# Altium schematic symbol library kmilo17pet-LT_OpAmp_LT1000.SchLib: 2280 symbols (part 49 of 79)
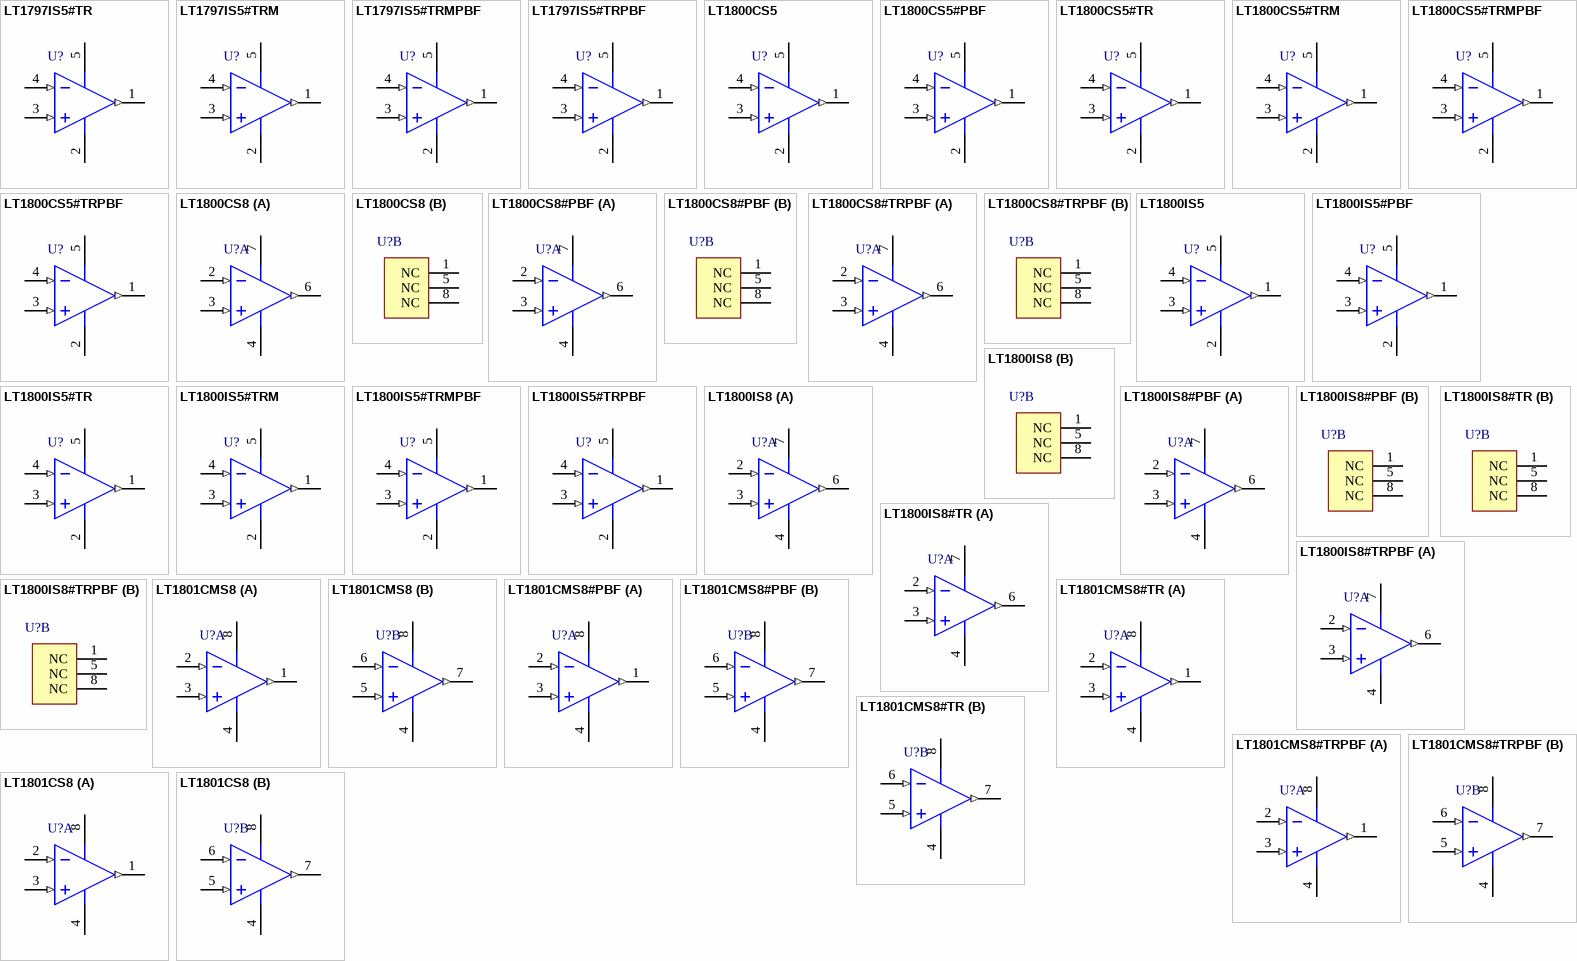
[diagram p153: symbols LT1797IS5#TR to LT1801CS8]

## LT1800CS5#TR
designator U?
Single Channel, High Speed / Power, Precision Operational Amplifier, RRIO, 80 MHz Typical GBW, 25 V/us Typical SR, 2.3 to 12.6 V, 5-Pin SOT23 (S5-5), Commercial, Reel; Linear Technology Part Number: LT1800; Manufacturer: Linear Technology; PartNumber: LT1800CS5#TR; Channels (#): 1; GBW (MHz) Typical: 80; Is (mA) Typical: 1.6; SR (V/us) Typical: 25; Vos (mV) Guaranteed: 0.35; Vos (mV) Typical: 0.075; Vs Max (V): 12.6; Vs Min (V): 2.3; DatasheetVersion: Rev. A; PackageReference: LT-S5-5-TSOT-23; PackageDescription: 5-Lead Plastic TSOT-23, Body 1.63 x 2.90 mm, Pitch 0.95 mm; Supplier 1: Digi-Key; Supplier Part Number 1: LT1800CS5TR-ND; Packing: Reel; Type: VFB; Mounting Technology: Surface Mount; Code_JEDEC: MO-193; ComponentLink1Description: Manufacturer URL; ComponentLink1URL: http://www.linear.com/; ComponentLink2Description: Datasheet; ComponentLink2URL: http://cds.linear.com/docs/en/datasheet/1800fa.pdf; ComponentLink3Description: Package Specification; ComponentLink3URL: http://cds.linear.com/docs/en/packaging/SOT_5_05-08-1635.pdf
footprint LT-S5-5-TSOT-23_N (SOT23, 5-Leads, Body 2.90x1.63mm, Pitch 0.95mm, IPC Medium Density)
footprint LT-S5-5-TSOT-23_L (SOT23, 5-Leads, Body 2.90x1.63mm, Pitch 0.95mm, IPC High Density)
footprint LT-S5-5-TSOT-23_M (SOT23, 5-Leads, Body 2.90x1.63mm, Pitch 0.95mm, IPC Low Density)
pins: 1 VOUT (out), 2 VS- (power), 3 +IN (in), 4 -IN (in), 5 VS+ (power)

## LT1800CS5#TRM
designator U?
Single Channel, High Speed / Power, Precision Operational Amplifier, RRIO, 80 MHz Typical GBW, 25 V/us Typical SR, 2.3 to 12.6 V, 5-Pin SOT23 (S5-5), Commercial, Mini Reel; Linear Technology Part Number: LT1800; Manufacturer: Linear Technology; PartNumber: LT1800CS5#TRM; Channels (#): 1; GBW (MHz) Typical: 80; Is (mA) Typical: 1.6; SR (V/us) Typical: 25; Vos (mV) Guaranteed: 0.35; Vos (mV) Typical: 0.075; Vs Max (V): 12.6; Vs Min (V): 2.3; DatasheetVersion: Rev. A; PackageReference: LT-S5-5-TSOT-23; PackageDescription: 5-Lead Plastic TSOT-23, Body 1.63 x 2.90 mm, Pitch 0.95 mm; Supplier 1: Digi-Key; Supplier Part Number 1: LT1800CS5#TRMTR-ND; Supplier 2: Digi-Key; Supplier Part Number 2: LT1800CS5#TRMCT-ND; Packing: Mini Reel; Type: VFB; Mounting Technology: Surface Mount; Code_JEDEC: MO-193; ComponentLink1Description: Manufacturer URL; ComponentLink1URL: http://www.linear.com/; ComponentLink2Description: Datasheet; ComponentLink2URL: http://cds.linear.com/docs/en/datasheet/1800fa.pdf; ComponentLink3Description: Package Specification; ComponentLink3URL: http://cds.linear.com/docs/en/packaging/SOT_5_05-08-1635.pdf
footprint LT-S5-5-TSOT-23_N (SOT23, 5-Leads, Body 2.90x1.63mm, Pitch 0.95mm, IPC Medium Density)
footprint LT-S5-5-TSOT-23_L (SOT23, 5-Leads, Body 2.90x1.63mm, Pitch 0.95mm, IPC High Density)
footprint LT-S5-5-TSOT-23_M (SOT23, 5-Leads, Body 2.90x1.63mm, Pitch 0.95mm, IPC Low Density)
pins: 1 VOUT (out), 2 VS- (power), 3 +IN (in), 4 -IN (in), 5 VS+ (power)

## LT1800CS5#TRMPBF
designator U?
Single Channel, High Speed / Power, Precision Operational Amplifier, RRIO, 80 MHz Typical GBW, 25 V/us Typical SR, 2.3 to 12.6 V, 5-Pin SOT23 (S5-5), Commercial, Pb-Free, Mini Reel; Linear Technology Part Number: LT1800; Manufacturer: Linear Technology; PartNumber: LT1800CS5#TRMPBF; Channels (#): 1; GBW (MHz) Typical: 80; Is (mA) Typical: 1.6; SR (V/us) Typical: 25; Vos (mV) Guaranteed: 0.35; Vos (mV) Typical: 0.075; Vs Max (V): 12.6; Vs Min (V): 2.3; DatasheetVersion: Rev. A; PackageReference: LT-S5-5-TSOT-23; PackageDescription: 5-Lead Plastic TSOT-23, Body 1.63 x 2.90 mm, Pitch 0.95 mm; Supplier 1: Digi-Key; Supplier Part Number 1: LT1800CS5#TRMPBFTR-ND; Supplier 2: Digi-Key; Supplier Part Number 2: LT1800CS5#TRMPBFCT-ND; Supplier 3: Digi-Key; Supplier Part Number 3: LT1800CS5#TRMPBFDKR-ND; Supplier 4: Farnell; Supplier Part Number 4: 1663796RL; Supplier 5: Farnell; Supplier Part Number 5: 1663796; Supplier 6: Newark; Supplier Part Number 6: 57M6724; Packing: Mini Reel; RoHS: Pb-Free; Type: VFB; Mounting Technology: Surface Mount; Code_JEDEC: MO-193; ComponentLink1Description: Manufacturer URL; ComponentLink1URL: http://www.linear.com/; ComponentLink2Description: Datasheet; ComponentLink2URL: http://cds.linear.com/docs/en/datasheet/1800fa.pdf; ComponentLink3Description: Package Specification; ComponentLink3URL: http://cds.linear.com/docs/en/packaging/SOT_5_05-08-1635.pdf
footprint LT-S5-5-TSOT-23_N (SOT23, 5-Leads, Body 2.90x1.63mm, Pitch 0.95mm, IPC Medium Density)
footprint LT-S5-5-TSOT-23_L (SOT23, 5-Leads, Body 2.90x1.63mm, Pitch 0.95mm, IPC High Density)
footprint LT-S5-5-TSOT-23_M (SOT23, 5-Leads, Body 2.90x1.63mm, Pitch 0.95mm, IPC Low Density)
pins: 1 VOUT (out), 2 VS- (power), 3 +IN (in), 4 -IN (in), 5 VS+ (power)

## LT1800CS5#TRPBF
designator U?
Single Channel, High Speed / Power, Precision Operational Amplifier, RRIO, 80 MHz Typical GBW, 25 V/us Typical SR, 2.3 to 12.6 V, 5-Pin SOT23 (S5-5), Commercial, Pb-Free, Reel; Linear Technology Part Number: LT1800; Manufacturer: Linear Technology; PartNumber: LT1800CS5#TRPBF; Channels (#): 1; GBW (MHz) Typical: 80; Is (mA) Typical: 1.6; SR (V/us) Typical: 25; Vos (mV) Guaranteed: 0.35; Vos (mV) Typical: 0.075; Vs Max (V): 12.6; Vs Min (V): 2.3; DatasheetVersion: Rev. A; PackageReference: LT-S5-5-TSOT-23; PackageDescription: 5-Lead Plastic TSOT-23, Body 1.63 x 2.90 mm, Pitch 0.95 mm; Supplier 1: Digi-Key; Supplier Part Number 1: LT1800CS5#TRPBF-ND; Supplier 2: Newark; Supplier Part Number 2: 57M6725; Packing: Reel; RoHS: Pb-Free; Type: VFB; Mounting Technology: Surface Mount; Code_JEDEC: MO-193; ComponentLink1Description: Manufacturer URL; ComponentLink1URL: http://www.linear.com/; ComponentLink2Description: Datasheet; ComponentLink2URL: http://cds.linear.com/docs/en/datasheet/1800fa.pdf; ComponentLink3Description: Package Specification; ComponentLink3URL: http://cds.linear.com/docs/en/packaging/SOT_5_05-08-1635.pdf
footprint LT-S5-5-TSOT-23_N (SOT23, 5-Leads, Body 2.90x1.63mm, Pitch 0.95mm, IPC Medium Density)
footprint LT-S5-5-TSOT-23_L (SOT23, 5-Leads, Body 2.90x1.63mm, Pitch 0.95mm, IPC High Density)
footprint LT-S5-5-TSOT-23_M (SOT23, 5-Leads, Body 2.90x1.63mm, Pitch 0.95mm, IPC Low Density)
pins: 1 VOUT (out), 2 VS- (power), 3 +IN (in), 4 -IN (in), 5 VS+ (power)

## LT1800CS8
designator U?
Single Channel, High Speed / Power, Precision Operational Amplifier, RRIO, 80 MHz Typical GBW, 25 V/us Typical SR, 2.3 to 12.6 V, 8-Pin SOIC (S8-8), Commercial; Linear Technology Part Number: LT1800; Manufacturer: Linear Technology; PartNumber: LT1800CS8; Channels (#): 1; GBW (MHz) Typical: 80; Is (mA) Typical: 1.6; SR (V/us) Typical: 25; Vos (mV) Guaranteed: 0.35; Vos (mV) Typical: 0.075; Vs Max (V): 12.6; Vs Min (V): 2.3; DatasheetVersion: Rev. A; PackageVersion: Rev G; PackageReference: LT-S8-8; PackageDescription: 8-Pin Plastic Small Outline, Body 4.9 x 3.9 mm, Pitch 1.27 mm; Supplier 1: Digi-Key; Supplier Part Number 1: LT1800CS8-ND; Type: VFB; Mounting Technology: Surface Mount; ComponentLink1Description: Manufacturer URL; ComponentLink1URL: http://www.linear.com/; ComponentLink2Description: Datasheet; ComponentLink2URL: http://cds.linear.com/docs/en/datasheet/1800fa.pdf; ComponentLink3Description: Package Specification; ComponentLink3URL: http://cds.linear.com/docs/en/packaging/05081610_G_SO8.pdf
footprint LT-S8-8_N (SOIC, 8-Leads, Body 4.9x3.9mm, Pitch 1.27mm, IPC Medium Density)
footprint LT-S8-8_L (SOIC, 8-Leads, Body 4.9x3.9mm, Pitch 1.27mm, IPC High Density)
footprint LT-S8-8_M (SOIC, 8-Leads, Body 4.9x3.9mm, Pitch 1.27mm, IPC Low Density)
part A pins: 2 -IN (in), 3 +IN (in), 4 VS- (power), 6 VOUT (out), 7 VS+ (power)
part B pins: 1 NC, 5 NC, 8 NC

## LT1800CS8#PBF
designator U?
Single Channel, High Speed / Power, Precision Operational Amplifier, RRIO, 80 MHz Typical GBW, 25 V/us Typical SR, 2.3 to 12.6 V, 8-Pin SOIC (S8-8), Commercial, Pb-Free; Linear Technology Part Number: LT1800; Manufacturer: Linear Technology; PartNumber: LT1800CS8#PBF; Channels (#): 1; GBW (MHz) Typical: 80; Is (mA) Typical: 1.6; SR (V/us) Typical: 25; Vos (mV) Guaranteed: 0.35; Vos (mV) Typical: 0.075; Vs Max (V): 12.6; Vs Min (V): 2.3; DatasheetVersion: Rev. A; PackageVersion: Rev G; PackageReference: LT-S8-8; PackageDescription: 8-Pin Plastic Small Outline, Body 4.9 x 3.9 mm, Pitch 1.27 mm; Supplier 1: Digi-Key; Supplier Part Number 1: LT1800CS8#PBF-ND; Supplier 2: Farnell; Supplier Part Number 2: 1330702; Supplier 3: Newark; Supplier Part Number 3: 57M6727; RoHS: Pb-Free; Type: VFB; Mounting Technology: Surface Mount; ComponentLink1Description: Manufacturer URL; ComponentLink1URL: http://www.linear.com/; ComponentLink2Description: Datasheet; ComponentLink2URL: http://cds.linear.com/docs/en/datasheet/1800fa.pdf; ComponentLink3Description: Package Specification; ComponentLink3URL: http://cds.linear.com/docs/en/packaging/05081610_G_SO8.pdf
footprint LT-S8-8_N (SOIC, 8-Leads, Body 4.9x3.9mm, Pitch 1.27mm, IPC Medium Density)
footprint LT-S8-8_L (SOIC, 8-Leads, Body 4.9x3.9mm, Pitch 1.27mm, IPC High Density)
footprint LT-S8-8_M (SOIC, 8-Leads, Body 4.9x3.9mm, Pitch 1.27mm, IPC Low Density)
part A pins: 2 -IN (in), 3 +IN (in), 4 VS- (power), 6 VOUT (out), 7 VS+ (power)
part B pins: 1 NC, 5 NC, 8 NC

## LT1800CS8#TRPBF
designator U?
Single Channel, High Speed / Power, Precision Operational Amplifier, RRIO, 80 MHz Typical GBW, 25 V/us Typical SR, 2.3 to 12.6 V, 8-Pin SOIC (S8-8), Commercial, Pb-Free, Reel; Linear Technology Part Number: LT1800; Manufacturer: Linear Technology; PartNumber: LT1800CS8#TRPBF; Channels (#): 1; GBW (MHz) Typical: 80; Is (mA) Typical: 1.6; SR (V/us) Typical: 25; Vos (mV) Guaranteed: 0.35; Vos (mV) Typical: 0.075; Vs Max (V): 12.6; Vs Min (V): 2.3; DatasheetVersion: Rev. A; PackageVersion: Rev G; PackageReference: LT-S8-8; PackageDescription: 8-Pin Plastic Small Outline, Body 4.9 x 3.9 mm, Pitch 1.27 mm; Supplier 1: Digi-Key; Supplier Part Number 1: LT1800CS8#TRPBF-ND; Packing: Reel; RoHS: Pb-Free; Type: VFB; Mounting Technology: Surface Mount; ComponentLink1Description: Manufacturer URL; ComponentLink1URL: http://www.linear.com/; ComponentLink2Description: Datasheet; ComponentLink2URL: http://cds.linear.com/docs/en/datasheet/1800fa.pdf; ComponentLink3Description: Package Specification; ComponentLink3URL: http://cds.linear.com/docs/en/packaging/05081610_G_SO8.pdf
footprint LT-S8-8_N (SOIC, 8-Leads, Body 4.9x3.9mm, Pitch 1.27mm, IPC Medium Density)
footprint LT-S8-8_L (SOIC, 8-Leads, Body 4.9x3.9mm, Pitch 1.27mm, IPC High Density)
footprint LT-S8-8_M (SOIC, 8-Leads, Body 4.9x3.9mm, Pitch 1.27mm, IPC Low Density)
part A pins: 2 -IN (in), 3 +IN (in), 4 VS- (power), 6 VOUT (out), 7 VS+ (power)
part B pins: 1 NC, 5 NC, 8 NC

## LT1800IS5
designator U?
Single Channel, High Speed / Power, Precision Operational Amplifier, RRIO, 80 MHz Typical GBW, 25 V/us Typical SR, 2.3 to 12.6 V, 5-Pin SOT23 (S5-5), Industrial; Linear Technology Part Number: LT1800; Manufacturer: Linear Technology; PartNumber: LT1800IS5; Channels (#): 1; GBW (MHz) Typical: 80; Is (mA) Typical: 1.6; SR (V/us) Typical: 25; Vos (mV) Guaranteed: 0.35; Vos (mV) Typical: 0.075; Vs Max (V): 12.6; Vs Min (V): 2.3; DatasheetVersion: Rev. A; PackageReference: LT-S5-5-TSOT-23; PackageDescription: 5-Lead Plastic TSOT-23, Body 1.63 x 2.90 mm, Pitch 0.95 mm; Type: VFB; Mounting Technology: Surface Mount; Code_JEDEC: MO-193; ComponentLink1Description: Manufacturer URL; ComponentLink1URL: http://www.linear.com/; ComponentLink2Description: Datasheet; ComponentLink2URL: http://cds.linear.com/docs/en/datasheet/1800fa.pdf; ComponentLink3Description: Package Specification; ComponentLink3URL: http://cds.linear.com/docs/en/packaging/SOT_5_05-08-1635.pdf
footprint LT-S5-5-TSOT-23_N (SOT23, 5-Leads, Body 2.90x1.63mm, Pitch 0.95mm, IPC Medium Density)
footprint LT-S5-5-TSOT-23_L (SOT23, 5-Leads, Body 2.90x1.63mm, Pitch 0.95mm, IPC High Density)
footprint LT-S5-5-TSOT-23_M (SOT23, 5-Leads, Body 2.90x1.63mm, Pitch 0.95mm, IPC Low Density)
pins: 1 VOUT (out), 2 VS- (power), 3 +IN (in), 4 -IN (in), 5 VS+ (power)

## LT1800IS5#PBF
designator U?
Single Channel, High Speed / Power, Precision Operational Amplifier, RRIO, 80 MHz Typical GBW, 25 V/us Typical SR, 2.3 to 12.6 V, 5-Pin SOT23 (S5-5), Industrial, Pb-Free; Linear Technology Part Number: LT1800; Manufacturer: Linear Technology; PartNumber: LT1800IS5#PBF; Channels (#): 1; GBW (MHz) Typical: 80; Is (mA) Typical: 1.6; SR (V/us) Typical: 25; Vos (mV) Guaranteed: 0.35; Vos (mV) Typical: 0.075; Vs Max (V): 12.6; Vs Min (V): 2.3; DatasheetVersion: Rev. A; PackageReference: LT-S5-5-TSOT-23; PackageDescription: 5-Lead Plastic TSOT-23, Body 1.63 x 2.90 mm, Pitch 0.95 mm; Supplier 1: Farnell; Supplier Part Number 1: 2115809; Supplier 2: Newark; Supplier Part Number 2: 61M3366; RoHS: Pb-Free; Type: VFB; Mounting Technology: Surface Mount; Code_JEDEC: MO-193; ComponentLink1Description: Manufacturer URL; ComponentLink1URL: http://www.linear.com/; ComponentLink2Description: Datasheet; ComponentLink2URL: http://cds.linear.com/docs/en/datasheet/1800fa.pdf; ComponentLink3Description: Package Specification; ComponentLink3URL: http://cds.linear.com/docs/en/packaging/SOT_5_05-08-1635.pdf
footprint LT-S5-5-TSOT-23_N (SOT23, 5-Leads, Body 2.90x1.63mm, Pitch 0.95mm, IPC Medium Density)
footprint LT-S5-5-TSOT-23_L (SOT23, 5-Leads, Body 2.90x1.63mm, Pitch 0.95mm, IPC High Density)
footprint LT-S5-5-TSOT-23_M (SOT23, 5-Leads, Body 2.90x1.63mm, Pitch 0.95mm, IPC Low Density)
pins: 1 VOUT (out), 2 VS- (power), 3 +IN (in), 4 -IN (in), 5 VS+ (power)

## LT1800IS5#TR
designator U?
Single Channel, High Speed / Power, Precision Operational Amplifier, RRIO, 80 MHz Typical GBW, 25 V/us Typical SR, 2.3 to 12.6 V, 5-Pin SOT23 (S5-5), Industrial, Reel; Linear Technology Part Number: LT1800; Manufacturer: Linear Technology; PartNumber: LT1800IS5#TR; Channels (#): 1; GBW (MHz) Typical: 80; Is (mA) Typical: 1.6; SR (V/us) Typical: 25; Vos (mV) Guaranteed: 0.35; Vos (mV) Typical: 0.075; Vs Max (V): 12.6; Vs Min (V): 2.3; DatasheetVersion: Rev. A; PackageReference: LT-S5-5-TSOT-23; PackageDescription: 5-Lead Plastic TSOT-23, Body 1.63 x 2.90 mm, Pitch 0.95 mm; Supplier 1: Digi-Key; Supplier Part Number 1: LT1800IS5TR-ND; Supplier 2: Newark; Supplier Part Number 2: 57M6730; Packing: Reel; Type: VFB; Mounting Technology: Surface Mount; Code_JEDEC: MO-193; ComponentLink1Description: Manufacturer URL; ComponentLink1URL: http://www.linear.com/; ComponentLink2Description: Datasheet; ComponentLink2URL: http://cds.linear.com/docs/en/datasheet/1800fa.pdf; ComponentLink3Description: Package Specification; ComponentLink3URL: http://cds.linear.com/docs/en/packaging/SOT_5_05-08-1635.pdf
footprint LT-S5-5-TSOT-23_N (SOT23, 5-Leads, Body 2.90x1.63mm, Pitch 0.95mm, IPC Medium Density)
footprint LT-S5-5-TSOT-23_L (SOT23, 5-Leads, Body 2.90x1.63mm, Pitch 0.95mm, IPC High Density)
footprint LT-S5-5-TSOT-23_M (SOT23, 5-Leads, Body 2.90x1.63mm, Pitch 0.95mm, IPC Low Density)
pins: 1 VOUT (out), 2 VS- (power), 3 +IN (in), 4 -IN (in), 5 VS+ (power)

## LT1800IS5#TRM
designator U?
Single Channel, High Speed / Power, Precision Operational Amplifier, RRIO, 80 MHz Typical GBW, 25 V/us Typical SR, 2.3 to 12.6 V, 5-Pin SOT23 (S5-5), Industrial, Mini Reel; Linear Technology Part Number: LT1800; Manufacturer: Linear Technology; PartNumber: LT1800IS5#TRM; Channels (#): 1; GBW (MHz) Typical: 80; Is (mA) Typical: 1.6; SR (V/us) Typical: 25; Vos (mV) Guaranteed: 0.35; Vos (mV) Typical: 0.075; Vs Max (V): 12.6; Vs Min (V): 2.3; DatasheetVersion: Rev. A; PackageReference: LT-S5-5-TSOT-23; PackageDescription: 5-Lead Plastic TSOT-23, Body 1.63 x 2.90 mm, Pitch 0.95 mm; Supplier 1: Digi-Key; Supplier Part Number 1: LT1800IS5#TRM-ND; Packing: Mini Reel; Type: VFB; Mounting Technology: Surface Mount; Code_JEDEC: MO-193; ComponentLink1Description: Manufacturer URL; ComponentLink1URL: http://www.linear.com/; ComponentLink2Description: Datasheet; ComponentLink2URL: http://cds.linear.com/docs/en/datasheet/1800fa.pdf; ComponentLink3Description: Package Specification; ComponentLink3URL: http://cds.linear.com/docs/en/packaging/SOT_5_05-08-1635.pdf
footprint LT-S5-5-TSOT-23_N (SOT23, 5-Leads, Body 2.90x1.63mm, Pitch 0.95mm, IPC Medium Density)
footprint LT-S5-5-TSOT-23_L (SOT23, 5-Leads, Body 2.90x1.63mm, Pitch 0.95mm, IPC High Density)
footprint LT-S5-5-TSOT-23_M (SOT23, 5-Leads, Body 2.90x1.63mm, Pitch 0.95mm, IPC Low Density)
pins: 1 VOUT (out), 2 VS- (power), 3 +IN (in), 4 -IN (in), 5 VS+ (power)

## LT1800IS5#TRMPBF
designator U?
Single Channel, High Speed / Power, Precision Operational Amplifier, RRIO, 80 MHz Typical GBW, 25 V/us Typical SR, 2.3 to 12.6 V, 5-Pin SOT23 (S5-5), Industrial, Pb-Free, Mini Reel; Linear Technology Part Number: LT1800; Manufacturer: Linear Technology; PartNumber: LT1800IS5#TRMPBF; Channels (#): 1; GBW (MHz) Typical: 80; Is (mA) Typical: 1.6; SR (V/us) Typical: 25; Vos (mV) Guaranteed: 0.35; Vos (mV) Typical: 0.075; Vs Max (V): 12.6; Vs Min (V): 2.3; DatasheetVersion: Rev. A; PackageReference: LT-S5-5-TSOT-23; PackageDescription: 5-Lead Plastic TSOT-23, Body 1.63 x 2.90 mm, Pitch 0.95 mm; Supplier 1: Digi-Key; Supplier Part Number 1: LT1800IS5#TRMPBF-ND; Supplier 2: Newark; Supplier Part Number 2: 57M6732; Packing: Mini Reel; RoHS: Pb-Free; Type: VFB; Mounting Technology: Surface Mount; Code_JEDEC: MO-193; ComponentLink1Description: Manufacturer URL; ComponentLink1URL: http://www.linear.com/; ComponentLink2Description: Datasheet; ComponentLink2URL: http://cds.linear.com/docs/en/datasheet/1800fa.pdf; ComponentLink3Description: Package Specification; ComponentLink3URL: http://cds.linear.com/docs/en/packaging/SOT_5_05-08-1635.pdf
footprint LT-S5-5-TSOT-23_N (SOT23, 5-Leads, Body 2.90x1.63mm, Pitch 0.95mm, IPC Medium Density)
footprint LT-S5-5-TSOT-23_L (SOT23, 5-Leads, Body 2.90x1.63mm, Pitch 0.95mm, IPC High Density)
footprint LT-S5-5-TSOT-23_M (SOT23, 5-Leads, Body 2.90x1.63mm, Pitch 0.95mm, IPC Low Density)
pins: 1 VOUT (out), 2 VS- (power), 3 +IN (in), 4 -IN (in), 5 VS+ (power)

## LT1800IS5#TRPBF
designator U?
Single Channel, High Speed / Power, Precision Operational Amplifier, RRIO, 80 MHz Typical GBW, 25 V/us Typical SR, 2.3 to 12.6 V, 5-Pin SOT23 (S5-5), Industrial, Pb-Free, Reel; Linear Technology Part Number: LT1800; Manufacturer: Linear Technology; PartNumber: LT1800IS5#TRPBF; Channels (#): 1; GBW (MHz) Typical: 80; Is (mA) Typical: 1.6; SR (V/us) Typical: 25; Vos (mV) Guaranteed: 0.35; Vos (mV) Typical: 0.075; Vs Max (V): 12.6; Vs Min (V): 2.3; DatasheetVersion: Rev. A; PackageReference: LT-S5-5-TSOT-23; PackageDescription: 5-Lead Plastic TSOT-23, Body 1.63 x 2.90 mm, Pitch 0.95 mm; Supplier 1: Digi-Key; Supplier Part Number 1: LT1800IS5#TRPBF-ND; Supplier 2: Newark; Supplier Part Number 2: 57M6733; Packing: Reel; RoHS: Pb-Free; Type: VFB; Mounting Technology: Surface Mount; Code_JEDEC: MO-193; ComponentLink1Description: Manufacturer URL; ComponentLink1URL: http://www.linear.com/; ComponentLink2Description: Datasheet; ComponentLink2URL: http://cds.linear.com/docs/en/datasheet/1800fa.pdf; ComponentLink3Description: Package Specification; ComponentLink3URL: http://cds.linear.com/docs/en/packaging/SOT_5_05-08-1635.pdf
footprint LT-S5-5-TSOT-23_N (SOT23, 5-Leads, Body 2.90x1.63mm, Pitch 0.95mm, IPC Medium Density)
footprint LT-S5-5-TSOT-23_L (SOT23, 5-Leads, Body 2.90x1.63mm, Pitch 0.95mm, IPC High Density)
footprint LT-S5-5-TSOT-23_M (SOT23, 5-Leads, Body 2.90x1.63mm, Pitch 0.95mm, IPC Low Density)
pins: 1 VOUT (out), 2 VS- (power), 3 +IN (in), 4 -IN (in), 5 VS+ (power)

## LT1800IS8
designator U?
Single Channel, High Speed / Power, Precision Operational Amplifier, RRIO, 80 MHz Typical GBW, 25 V/us Typical SR, 2.3 to 12.6 V, 8-Pin SOIC (S8-8), Industrial; Linear Technology Part Number: LT1800; Manufacturer: Linear Technology; PartNumber: LT1800IS8; Channels (#): 1; GBW (MHz) Typical: 80; Is (mA) Typical: 1.6; SR (V/us) Typical: 25; Vos (mV) Guaranteed: 0.35; Vos (mV) Typical: 0.075; Vs Max (V): 12.6; Vs Min (V): 2.3; DatasheetVersion: Rev. A; PackageVersion: Rev G; PackageReference: LT-S8-8; PackageDescription: 8-Pin Plastic Small Outline, Body 4.9 x 3.9 mm, Pitch 1.27 mm; Supplier 1: Digi-Key; Supplier Part Number 1: LT1800IS8-ND; Type: VFB; Mounting Technology: Surface Mount; ComponentLink1Description: Manufacturer URL; ComponentLink1URL: http://www.linear.com/; ComponentLink2Description: Datasheet; ComponentLink2URL: http://cds.linear.com/docs/en/datasheet/1800fa.pdf; ComponentLink3Description: Package Specification; ComponentLink3URL: http://cds.linear.com/docs/en/packaging/05081610_G_SO8.pdf
footprint LT-S8-8_N (SOIC, 8-Leads, Body 4.9x3.9mm, Pitch 1.27mm, IPC Medium Density)
footprint LT-S8-8_L (SOIC, 8-Leads, Body 4.9x3.9mm, Pitch 1.27mm, IPC High Density)
footprint LT-S8-8_M (SOIC, 8-Leads, Body 4.9x3.9mm, Pitch 1.27mm, IPC Low Density)
part A pins: 2 -IN (in), 3 +IN (in), 4 VS- (power), 6 VOUT (out), 7 VS+ (power)
part B pins: 1 NC, 5 NC, 8 NC

## LT1800IS8#PBF
designator U?
Single Channel, High Speed / Power, Precision Operational Amplifier, RRIO, 80 MHz Typical GBW, 25 V/us Typical SR, 2.3 to 12.6 V, 8-Pin SOIC (S8-8), Industrial, Pb-Free; Linear Technology Part Number: LT1800; Manufacturer: Linear Technology; PartNumber: LT1800IS8#PBF; Channels (#): 1; GBW (MHz) Typical: 80; Is (mA) Typical: 1.6; SR (V/us) Typical: 25; Vos (mV) Guaranteed: 0.35; Vos (mV) Typical: 0.075; Vs Max (V): 12.6; Vs Min (V): 2.3; DatasheetVersion: Rev. A; PackageVersion: Rev G; PackageReference: LT-S8-8; PackageDescription: 8-Pin Plastic Small Outline, Body 4.9 x 3.9 mm, Pitch 1.27 mm; Supplier 1: Digi-Key; Supplier Part Number 1: LT1800IS8#PBF-ND; RoHS: Pb-Free; Type: VFB; Mounting Technology: Surface Mount; ComponentLink1Description: Manufacturer URL; ComponentLink1URL: http://www.linear.com/; ComponentLink2Description: Datasheet; ComponentLink2URL: http://cds.linear.com/docs/en/datasheet/1800fa.pdf; ComponentLink3Description: Package Specification; ComponentLink3URL: http://cds.linear.com/docs/en/packaging/05081610_G_SO8.pdf
footprint LT-S8-8_N (SOIC, 8-Leads, Body 4.9x3.9mm, Pitch 1.27mm, IPC Medium Density)
footprint LT-S8-8_L (SOIC, 8-Leads, Body 4.9x3.9mm, Pitch 1.27mm, IPC High Density)
footprint LT-S8-8_M (SOIC, 8-Leads, Body 4.9x3.9mm, Pitch 1.27mm, IPC Low Density)
part A pins: 2 -IN (in), 3 +IN (in), 4 VS- (power), 6 VOUT (out), 7 VS+ (power)
part B pins: 1 NC, 5 NC, 8 NC

## LT1800IS8#TR
designator U?
Single Channel, High Speed / Power, Precision Operational Amplifier, RRIO, 80 MHz Typical GBW, 25 V/us Typical SR, 2.3 to 12.6 V, 8-Pin SOIC (S8-8), Industrial, Reel; Linear Technology Part Number: LT1800; Manufacturer: Linear Technology; PartNumber: LT1800IS8#TR; Channels (#): 1; GBW (MHz) Typical: 80; Is (mA) Typical: 1.6; SR (V/us) Typical: 25; Vos (mV) Guaranteed: 0.35; Vos (mV) Typical: 0.075; Vs Max (V): 12.6; Vs Min (V): 2.3; DatasheetVersion: Rev. A; PackageVersion: Rev G; PackageReference: LT-S8-8; PackageDescription: 8-Pin Plastic Small Outline, Body 4.9 x 3.9 mm, Pitch 1.27 mm; Supplier 1: Digi-Key; Supplier Part Number 1: LT1800IS8TR-ND; Packing: Reel; Type: VFB; Mounting Technology: Surface Mount; ComponentLink1Description: Manufacturer URL; ComponentLink1URL: http://www.linear.com/; ComponentLink2Description: Datasheet; ComponentLink2URL: http://cds.linear.com/docs/en/datasheet/1800fa.pdf; ComponentLink3Description: Package Specification; ComponentLink3URL: http://cds.linear.com/docs/en/packaging/05081610_G_SO8.pdf
footprint LT-S8-8_N (SOIC, 8-Leads, Body 4.9x3.9mm, Pitch 1.27mm, IPC Medium Density)
footprint LT-S8-8_L (SOIC, 8-Leads, Body 4.9x3.9mm, Pitch 1.27mm, IPC High Density)
footprint LT-S8-8_M (SOIC, 8-Leads, Body 4.9x3.9mm, Pitch 1.27mm, IPC Low Density)
part A pins: 2 -IN (in), 3 +IN (in), 4 VS- (power), 6 VOUT (out), 7 VS+ (power)
part B pins: 1 NC, 5 NC, 8 NC

## LT1800IS8#TRPBF
designator U?
Single Channel, High Speed / Power, Precision Operational Amplifier, RRIO, 80 MHz Typical GBW, 25 V/us Typical SR, 2.3 to 12.6 V, 8-Pin SOIC (S8-8), Industrial, Pb-Free, Reel; Linear Technology Part Number: LT1800; Manufacturer: Linear Technology; PartNumber: LT1800IS8#TRPBF; Channels (#): 1; GBW (MHz) Typical: 80; Is (mA) Typical: 1.6; SR (V/us) Typical: 25; Vos (mV) Guaranteed: 0.35; Vos (mV) Typical: 0.075; Vs Max (V): 12.6; Vs Min (V): 2.3; DatasheetVersion: Rev. A; PackageVersion: Rev G; PackageReference: LT-S8-8; PackageDescription: 8-Pin Plastic Small Outline, Body 4.9 x 3.9 mm, Pitch 1.27 mm; Supplier 1: Digi-Key; Supplier Part Number 1: LT1800IS8#TRPBF-ND; Packing: Reel; RoHS: Pb-Free; Type: VFB; Mounting Technology: Surface Mount; ComponentLink1Description: Manufacturer URL; ComponentLink1URL: http://www.linear.com/; ComponentLink2Description: Datasheet; ComponentLink2URL: http://cds.linear.com/docs/en/datasheet/1800fa.pdf; ComponentLink3Description: Package Specification; ComponentLink3URL: http://cds.linear.com/docs/en/packaging/05081610_G_SO8.pdf
footprint LT-S8-8_N (SOIC, 8-Leads, Body 4.9x3.9mm, Pitch 1.27mm, IPC Medium Density)
footprint LT-S8-8_L (SOIC, 8-Leads, Body 4.9x3.9mm, Pitch 1.27mm, IPC High Density)
footprint LT-S8-8_M (SOIC, 8-Leads, Body 4.9x3.9mm, Pitch 1.27mm, IPC Low Density)
part A pins: 2 -IN (in), 3 +IN (in), 4 VS- (power), 6 VOUT (out), 7 VS+ (power)
part B pins: 1 NC, 5 NC, 8 NC

## LT1801CMS8
designator U?
Dual Channel, High Speed / Power, Precision Operational Amplifier, RRIO, 80 MHz Typical GBW, 25 V/us Typical SR, 2.3 to 12.6 V, 8-Pin SOP (MS8-8), Commercial; Linear Technology Part Number: LT1801; Manufacturer: Linear Technology; PartNumber: LT1801CMS8; Channels (#): 2; GBW (MHz) Typical: 80; Is (mA) Typical: 1.6; SR (V/us) Typical: 25; Vos (mV) Guaranteed: 0.35; Vos (mV) Typical: 0.075; Vs Max (V): 12.6; Vs Min (V): 2.3; DatasheetVersion: Rev. C; PackageVersion: Rev G; PackageReference: LT-MS8-8; PackageDescription: 8-Lead Plastic Small Outline, Body 3.9 x 4.9 mm, Pitch 1.27 mm; Supplier 1: Digi-Key; Supplier Part Number 1: LT1801CMS8-ND; Type: VFB; Mounting Technology: Surface Mount; ComponentLink1Description: Manufacturer URL; ComponentLink1URL: http://www.linear.com/; ComponentLink2Description: Datasheet; ComponentLink2URL: http://cds.linear.com/docs/en/datasheet/18012fc.pdf; ComponentLink3Description: Package Specification; ComponentLink3URL: http://cds.linear.com/docs/en/packaging/05081610_G_SO8.pdf
footprint LT-MS8-8_N (SOP, 8-Leads, Body 3x3mm, Pitch 0.65mm, IPC Medium Density)
footprint LT-MS8-8_L (SOP, 8-Leads, Body 3x3mm, Pitch 0.65mm, IPC High Density)
footprint LT-MS8-8_M (SOP, 8-Leads, Body 3x3mm, Pitch 0.65mm, IPC Low Density)
pins on every part: 4 V- (power), 8 V+ (power)
part A pins: 1 OUT A (out), 2 -IN A (in), 3 +IN A (in)
part B pins: 5 +IN B (in), 6 -IN B (in), 7 OUT B (out)

## LT1801CMS8#PBF
designator U?
Dual Channel, High Speed / Power, Precision Operational Amplifier, RRIO, 80 MHz Typical GBW, 25 V/us Typical SR, 2.3 to 12.6 V, 8-Pin SOP (MS8-8), Commercial, Pb-Free; Linear Technology Part Number: LT1801; Manufacturer: Linear Technology; PartNumber: LT1801CMS8#PBF; Channels (#): 2; GBW (MHz) Typical: 80; Is (mA) Typical: 1.6; SR (V/us) Typical: 25; Vos (mV) Guaranteed: 0.35; Vos (mV) Typical: 0.075; Vs Max (V): 12.6; Vs Min (V): 2.3; DatasheetVersion: Rev. C; PackageVersion: Rev G; PackageReference: LT-MS8-8; PackageDescription: 8-Lead Plastic Small Outline, Body 3.9 x 4.9 mm, Pitch 1.27 mm; Supplier 1: Digi-Key; Supplier Part Number 1: LT1801CMS8#PBF-ND; Supplier 2: Newark; Supplier Part Number 2: 57M6743; RoHS: Pb-Free; Type: VFB; Mounting Technology: Surface Mount; ComponentLink1Description: Manufacturer URL; ComponentLink1URL: http://www.linear.com/; ComponentLink2Description: Datasheet; ComponentLink2URL: http://cds.linear.com/docs/en/datasheet/18012fc.pdf; ComponentLink3Description: Package Specification; ComponentLink3URL: http://cds.linear.com/docs/en/packaging/05081610_G_SO8.pdf
footprint LT-MS8-8_N (SOP, 8-Leads, Body 3x3mm, Pitch 0.65mm, IPC Medium Density)
footprint LT-MS8-8_L (SOP, 8-Leads, Body 3x3mm, Pitch 0.65mm, IPC High Density)
footprint LT-MS8-8_M (SOP, 8-Leads, Body 3x3mm, Pitch 0.65mm, IPC Low Density)
pins on every part: 4 V- (power), 8 V+ (power)
part A pins: 1 OUT A (out), 2 -IN A (in), 3 +IN A (in)
part B pins: 5 +IN B (in), 6 -IN B (in), 7 OUT B (out)

## LT1801CMS8#TR
designator U?
Dual Channel, High Speed / Power, Precision Operational Amplifier, RRIO, 80 MHz Typical GBW, 25 V/us Typical SR, 2.3 to 12.6 V, 8-Pin SOP (MS8-8), Commercial, Reel; Linear Technology Part Number: LT1801; Manufacturer: Linear Technology; PartNumber: LT1801CMS8#TR; Channels (#): 2; GBW (MHz) Typical: 80; Is (mA) Typical: 1.6; SR (V/us) Typical: 25; Vos (mV) Guaranteed: 0.35; Vos (mV) Typical: 0.075; Vs Max (V): 12.6; Vs Min (V): 2.3; DatasheetVersion: Rev. C; PackageVersion: Rev G; PackageReference: LT-MS8-8; PackageDescription: 8-Lead Plastic Small Outline, Body 3.9 x 4.9 mm, Pitch 1.27 mm; Packing: Reel; Type: VFB; Mounting Technology: Surface Mount; ComponentLink1Description: Manufacturer URL; ComponentLink1URL: http://www.linear.com/; ComponentLink2Description: Datasheet; ComponentLink2URL: http://cds.linear.com/docs/en/datasheet/18012fc.pdf; ComponentLink3Description: Package Specification; ComponentLink3URL: http://cds.linear.com/docs/en/packaging/05081610_G_SO8.pdf
footprint LT-MS8-8_N (SOP, 8-Leads, Body 3x3mm, Pitch 0.65mm, IPC Medium Density)
footprint LT-MS8-8_L (SOP, 8-Leads, Body 3x3mm, Pitch 0.65mm, IPC High Density)
footprint LT-MS8-8_M (SOP, 8-Leads, Body 3x3mm, Pitch 0.65mm, IPC Low Density)
pins on every part: 4 V- (power), 8 V+ (power)
part A pins: 1 OUT A (out), 2 -IN A (in), 3 +IN A (in)
part B pins: 5 +IN B (in), 6 -IN B (in), 7 OUT B (out)

## LT1801CMS8#TRPBF
designator U?
Dual Channel, High Speed / Power, Precision Operational Amplifier, RRIO, 80 MHz Typical GBW, 25 V/us Typical SR, 2.3 to 12.6 V, 8-Pin SOP (MS8-8), Commercial, Pb-Free, Reel; Linear Technology Part Number: LT1801; Manufacturer: Linear Technology; PartNumber: LT1801CMS8#TRPBF; Channels (#): 2; GBW (MHz) Typical: 80; Is (mA) Typical: 1.6; SR (V/us) Typical: 25; Vos (mV) Guaranteed: 0.35; Vos (mV) Typical: 0.075; Vs Max (V): 12.6; Vs Min (V): 2.3; DatasheetVersion: Rev. C; PackageVersion: Rev G; PackageReference: LT-MS8-8; PackageDescription: 8-Lead Plastic Small Outline, Body 3.9 x 4.9 mm, Pitch 1.27 mm; Supplier 1: Digi-Key; Supplier Part Number 1: LT1801CMS8#TRPBF-ND; Supplier 2: Newark; Supplier Part Number 2: 57M6745; Packing: Reel; RoHS: Pb-Free; Type: VFB; Mounting Technology: Surface Mount; ComponentLink1Description: Manufacturer URL; ComponentLink1URL: http://www.linear.com/; ComponentLink2Description: Datasheet; ComponentLink2URL: http://cds.linear.com/docs/en/datasheet/18012fc.pdf; ComponentLink3Description: Package Specification; ComponentLink3URL: http://cds.linear.com/docs/en/packaging/05081610_G_SO8.pdf
footprint LT-MS8-8_N (SOP, 8-Leads, Body 3x3mm, Pitch 0.65mm, IPC Medium Density)
footprint LT-MS8-8_L (SOP, 8-Leads, Body 3x3mm, Pitch 0.65mm, IPC High Density)
footprint LT-MS8-8_M (SOP, 8-Leads, Body 3x3mm, Pitch 0.65mm, IPC Low Density)
pins on every part: 4 V- (power), 8 V+ (power)
part A pins: 1 OUT A (out), 2 -IN A (in), 3 +IN A (in)
part B pins: 5 +IN B (in), 6 -IN B (in), 7 OUT B (out)

## LT1801CS8
designator U?
Dual Channel, High Speed / Power, Precision Operational Amplifier, RRIO, 80 MHz Typical GBW, 25 V/us Typical SR, 2.3 to 12.6 V, 8-Pin SOIC (S8-8), Commercial; Linear Technology Part Number: LT1801; Manufacturer: Linear Technology; PartNumber: LT1801CS8; Channels (#): 2; GBW (MHz) Typical: 80; Is (mA) Typical: 1.6; SR (V/us) Typical: 25; Vos (mV) Guaranteed: 0.35; Vos (mV) Typical: 0.075; Vs Max (V): 12.6; Vs Min (V): 2.3; DatasheetVersion: Rev. C; PackageVersion: Rev G; PackageReference: LT-S8-8; PackageDescription: 8-Pin Plastic Small Outline, Body 4.9 x 3.9 mm, Pitch 1.27 mm; Supplier 1: Digi-Key; Supplier Part Number 1: LT1801CS8-ND; Type: VFB; Mounting Technology: Surface Mount; ComponentLink1Description: Manufacturer URL; ComponentLink1URL: http://www.linear.com/; ComponentLink2Description: Datasheet; ComponentLink2URL: http://cds.linear.com/docs/en/datasheet/18012fc.pdf; ComponentLink3Description: Package Specification; ComponentLink3URL: http://cds.linear.com/docs/en/packaging/05081610_G_SO8.pdf
footprint LT-S8-8_N (SOIC, 8-Leads, Body 4.9x3.9mm, Pitch 1.27mm, IPC Medium Density)
footprint LT-S8-8_L (SOIC, 8-Leads, Body 4.9x3.9mm, Pitch 1.27mm, IPC High Density)
footprint LT-S8-8_M (SOIC, 8-Leads, Body 4.9x3.9mm, Pitch 1.27mm, IPC Low Density)
pins on every part: 4 V- (power), 8 V+ (power)
part A pins: 1 OUT A (out), 2 -IN A (in), 3 +IN A (in)
part B pins: 5 +IN B (in), 6 -IN B (in), 7 OUT B (out)

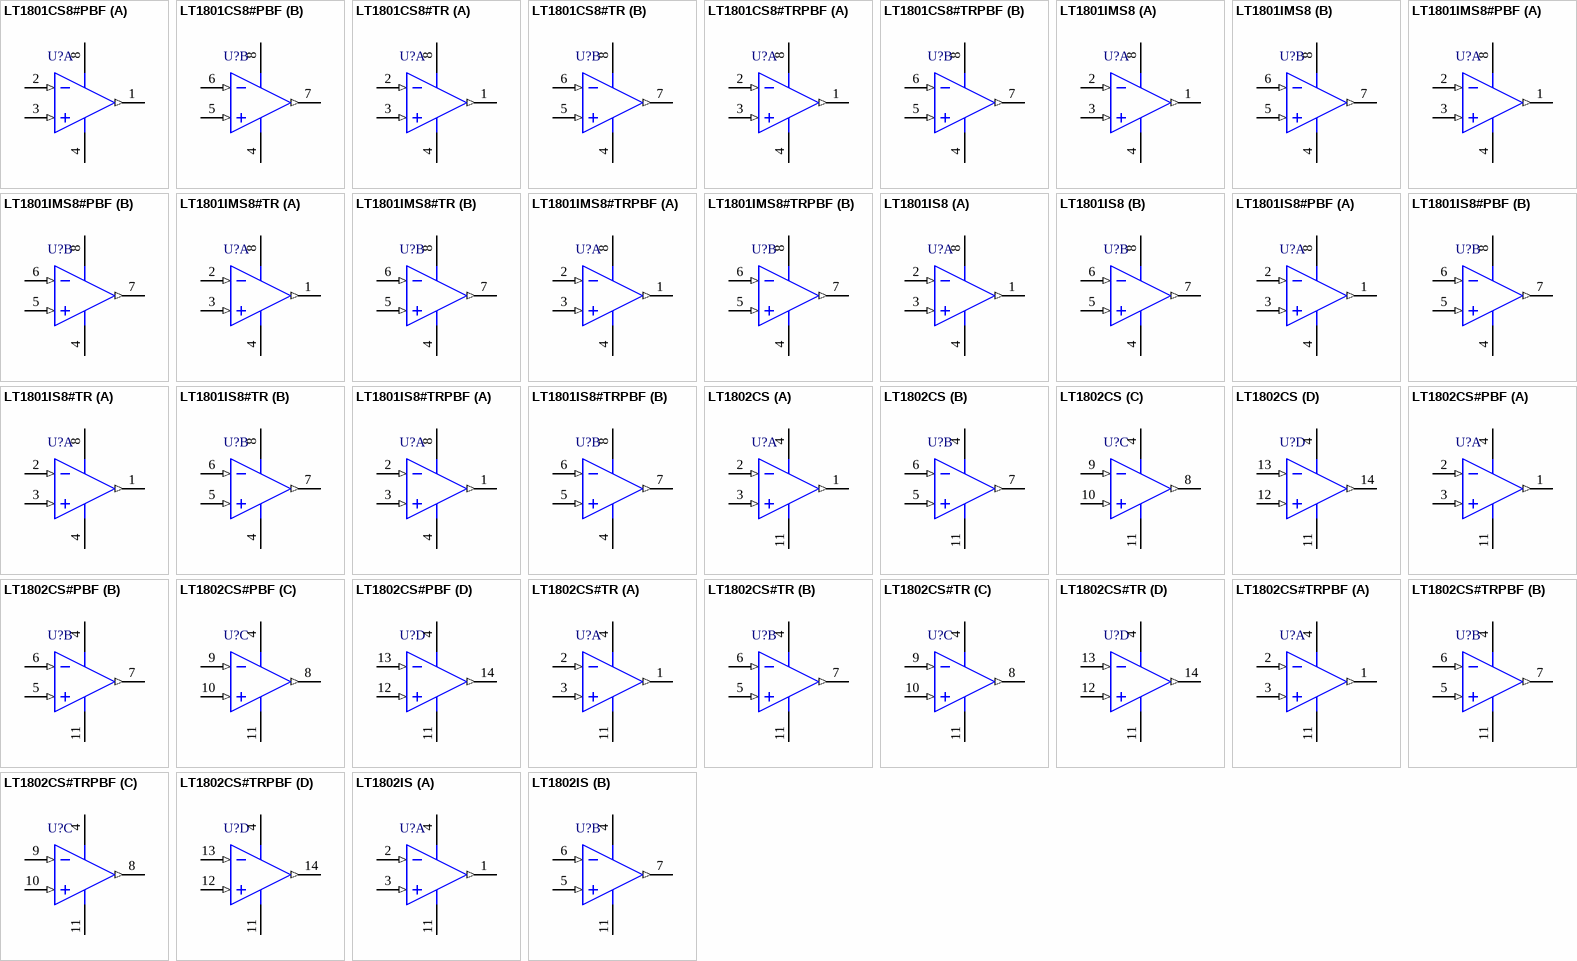
[diagram p76: symbols LT1801CS8#PBF to LT1802IS]

## LT1801CS8#PBF
designator U?
Dual Channel, High Speed / Power, Precision Operational Amplifier, RRIO, 80 MHz Typical GBW, 25 V/us Typical SR, 2.3 to 12.6 V, 8-Pin SOIC (S8-8), Commercial, Pb-Free; Linear Technology Part Number: LT1801; Manufacturer: Linear Technology; PartNumber: LT1801CS8#PBF; Channels (#): 2; GBW (MHz) Typical: 80; Is (mA) Typical: 1.6; SR (V/us) Typical: 25; Vos (mV) Guaranteed: 0.35; Vos (mV) Typical: 0.075; Vs Max (V): 12.6; Vs Min (V): 2.3; DatasheetVersion: Rev. C; PackageVersion: Rev G; PackageReference: LT-S8-8; PackageDescription: 8-Pin Plastic Small Outline, Body 4.9 x 3.9 mm, Pitch 1.27 mm; Supplier 1: Digi-Key; Supplier Part Number 1: LT1801CS8#PBF-ND; Supplier 2: Farnell; Supplier Part Number 2: 2115810; Supplier 3: Newark; Supplier Part Number 3: 57M6747; RoHS: Pb-Free; Type: VFB; Mounting Technology: Surface Mount; ComponentLink1Description: Manufacturer URL; ComponentLink1URL: http://www.linear.com/; ComponentLink2Description: Datasheet; ComponentLink2URL: http://cds.linear.com/docs/en/datasheet/18012fc.pdf; ComponentLink3Description: Package Specification; ComponentLink3URL: http://cds.linear.com/docs/en/packaging/05081610_G_SO8.pdf
footprint LT-S8-8_N (SOIC, 8-Leads, Body 4.9x3.9mm, Pitch 1.27mm, IPC Medium Density)
footprint LT-S8-8_L (SOIC, 8-Leads, Body 4.9x3.9mm, Pitch 1.27mm, IPC High Density)
footprint LT-S8-8_M (SOIC, 8-Leads, Body 4.9x3.9mm, Pitch 1.27mm, IPC Low Density)
pins on every part: 4 V- (power), 8 V+ (power)
part A pins: 1 OUT A (out), 2 -IN A (in), 3 +IN A (in)
part B pins: 5 +IN B (in), 6 -IN B (in), 7 OUT B (out)

## LT1801CS8#TR
designator U?
Dual Channel, High Speed / Power, Precision Operational Amplifier, RRIO, 80 MHz Typical GBW, 25 V/us Typical SR, 2.3 to 12.6 V, 8-Pin SOIC (S8-8), Commercial, Reel; Linear Technology Part Number: LT1801; Manufacturer: Linear Technology; PartNumber: LT1801CS8#TR; Channels (#): 2; GBW (MHz) Typical: 80; Is (mA) Typical: 1.6; SR (V/us) Typical: 25; Vos (mV) Guaranteed: 0.35; Vos (mV) Typical: 0.075; Vs Max (V): 12.6; Vs Min (V): 2.3; DatasheetVersion: Rev. C; PackageVersion: Rev G; PackageReference: LT-S8-8; PackageDescription: 8-Pin Plastic Small Outline, Body 4.9 x 3.9 mm, Pitch 1.27 mm; Supplier 1: Digi-Key; Supplier Part Number 1: LT1801CS8TR-ND; Packing: Reel; Type: VFB; Mounting Technology: Surface Mount; ComponentLink1Description: Manufacturer URL; ComponentLink1URL: http://www.linear.com/; ComponentLink2Description: Datasheet; ComponentLink2URL: http://cds.linear.com/docs/en/datasheet/18012fc.pdf; ComponentLink3Description: Package Specification; ComponentLink3URL: http://cds.linear.com/docs/en/packaging/05081610_G_SO8.pdf
footprint LT-S8-8_N (SOIC, 8-Leads, Body 4.9x3.9mm, Pitch 1.27mm, IPC Medium Density)
footprint LT-S8-8_L (SOIC, 8-Leads, Body 4.9x3.9mm, Pitch 1.27mm, IPC High Density)
footprint LT-S8-8_M (SOIC, 8-Leads, Body 4.9x3.9mm, Pitch 1.27mm, IPC Low Density)
pins on every part: 4 V- (power), 8 V+ (power)
part A pins: 1 OUT A (out), 2 -IN A (in), 3 +IN A (in)
part B pins: 5 +IN B (in), 6 -IN B (in), 7 OUT B (out)

## LT1801CS8#TRPBF
designator U?
Dual Channel, High Speed / Power, Precision Operational Amplifier, RRIO, 80 MHz Typical GBW, 25 V/us Typical SR, 2.3 to 12.6 V, 8-Pin SOIC (S8-8), Commercial, Pb-Free, Reel; Linear Technology Part Number: LT1801; Manufacturer: Linear Technology; PartNumber: LT1801CS8#TRPBF; Channels (#): 2; GBW (MHz) Typical: 80; Is (mA) Typical: 1.6; SR (V/us) Typical: 25; Vos (mV) Guaranteed: 0.35; Vos (mV) Typical: 0.075; Vs Max (V): 12.6; Vs Min (V): 2.3; DatasheetVersion: Rev. C; PackageVersion: Rev G; PackageReference: LT-S8-8; PackageDescription: 8-Pin Plastic Small Outline, Body 4.9 x 3.9 mm, Pitch 1.27 mm; Supplier 1: Digi-Key; Supplier Part Number 1: LT1801CS8#TRPBF-ND; Packing: Reel; RoHS: Pb-Free; Type: VFB; Mounting Technology: Surface Mount; ComponentLink1Description: Manufacturer URL; ComponentLink1URL: http://www.linear.com/; ComponentLink2Description: Datasheet; ComponentLink2URL: http://cds.linear.com/docs/en/datasheet/18012fc.pdf; ComponentLink3Description: Package Specification; ComponentLink3URL: http://cds.linear.com/docs/en/packaging/05081610_G_SO8.pdf
footprint LT-S8-8_N (SOIC, 8-Leads, Body 4.9x3.9mm, Pitch 1.27mm, IPC Medium Density)
footprint LT-S8-8_L (SOIC, 8-Leads, Body 4.9x3.9mm, Pitch 1.27mm, IPC High Density)
footprint LT-S8-8_M (SOIC, 8-Leads, Body 4.9x3.9mm, Pitch 1.27mm, IPC Low Density)
pins on every part: 4 V- (power), 8 V+ (power)
part A pins: 1 OUT A (out), 2 -IN A (in), 3 +IN A (in)
part B pins: 5 +IN B (in), 6 -IN B (in), 7 OUT B (out)

## LT1801IMS8
designator U?
Dual Channel, High Speed / Power, Precision Operational Amplifier, RRIO, 80 MHz Typical GBW, 25 V/us Typical SR, 2.3 to 12.6 V, 8-Pin SOP (MS8-8), Industrial; Linear Technology Part Number: LT1801; Manufacturer: Linear Technology; PartNumber: LT1801IMS8; Channels (#): 2; GBW (MHz) Typical: 80; Is (mA) Typical: 1.6; SR (V/us) Typical: 25; Vos (mV) Guaranteed: 0.35; Vos (mV) Typical: 0.075; Vs Max (V): 12.6; Vs Min (V): 2.3; DatasheetVersion: Rev. C; PackageVersion: Rev G; PackageReference: LT-MS8-8; PackageDescription: 8-Lead Plastic Small Outline, Body 3.9 x 4.9 mm, Pitch 1.27 mm; Supplier 1: Digi-Key; Supplier Part Number 1: LT1801IMS8-ND; Type: VFB; Mounting Technology: Surface Mount; ComponentLink1Description: Manufacturer URL; ComponentLink1URL: http://www.linear.com/; ComponentLink2Description: Datasheet; ComponentLink2URL: http://cds.linear.com/docs/en/datasheet/18012fc.pdf; ComponentLink3Description: Package Specification; ComponentLink3URL: http://cds.linear.com/docs/en/packaging/05081610_G_SO8.pdf
footprint LT-MS8-8_N (SOP, 8-Leads, Body 3x3mm, Pitch 0.65mm, IPC Medium Density)
footprint LT-MS8-8_L (SOP, 8-Leads, Body 3x3mm, Pitch 0.65mm, IPC High Density)
footprint LT-MS8-8_M (SOP, 8-Leads, Body 3x3mm, Pitch 0.65mm, IPC Low Density)
pins on every part: 4 V- (power), 8 V+ (power)
part A pins: 1 OUT A (out), 2 -IN A (in), 3 +IN A (in)
part B pins: 5 +IN B (in), 6 -IN B (in), 7 OUT B (out)

## LT1801IMS8#PBF
designator U?
Dual Channel, High Speed / Power, Precision Operational Amplifier, RRIO, 80 MHz Typical GBW, 25 V/us Typical SR, 2.3 to 12.6 V, 8-Pin SOP (MS8-8), Industrial, Pb-Free; Linear Technology Part Number: LT1801; Manufacturer: Linear Technology; PartNumber: LT1801IMS8#PBF; Channels (#): 2; GBW (MHz) Typical: 80; Is (mA) Typical: 1.6; SR (V/us) Typical: 25; Vos (mV) Guaranteed: 0.35; Vos (mV) Typical: 0.075; Vs Max (V): 12.6; Vs Min (V): 2.3; DatasheetVersion: Rev. C; PackageVersion: Rev G; PackageReference: LT-MS8-8; PackageDescription: 8-Lead Plastic Small Outline, Body 3.9 x 4.9 mm, Pitch 1.27 mm; Supplier 1: Digi-Key; Supplier Part Number 1: LT1801IMS8#PBF-ND; Supplier 2: Newark; Supplier Part Number 2: 57M6755; RoHS: Pb-Free; Type: VFB; Mounting Technology: Surface Mount; ComponentLink1Description: Manufacturer URL; ComponentLink1URL: http://www.linear.com/; ComponentLink2Description: Datasheet; ComponentLink2URL: http://cds.linear.com/docs/en/datasheet/18012fc.pdf; ComponentLink3Description: Package Specification; ComponentLink3URL: http://cds.linear.com/docs/en/packaging/05081610_G_SO8.pdf
footprint LT-MS8-8_N (SOP, 8-Leads, Body 3x3mm, Pitch 0.65mm, IPC Medium Density)
footprint LT-MS8-8_L (SOP, 8-Leads, Body 3x3mm, Pitch 0.65mm, IPC High Density)
footprint LT-MS8-8_M (SOP, 8-Leads, Body 3x3mm, Pitch 0.65mm, IPC Low Density)
pins on every part: 4 V- (power), 8 V+ (power)
part A pins: 1 OUT A (out), 2 -IN A (in), 3 +IN A (in)
part B pins: 5 +IN B (in), 6 -IN B (in), 7 OUT B (out)

## LT1801IMS8#TR
designator U?
Dual Channel, High Speed / Power, Precision Operational Amplifier, RRIO, 80 MHz Typical GBW, 25 V/us Typical SR, 2.3 to 12.6 V, 8-Pin SOP (MS8-8), Industrial, Reel; Linear Technology Part Number: LT1801; Manufacturer: Linear Technology; PartNumber: LT1801IMS8#TR; Channels (#): 2; GBW (MHz) Typical: 80; Is (mA) Typical: 1.6; SR (V/us) Typical: 25; Vos (mV) Guaranteed: 0.35; Vos (mV) Typical: 0.075; Vs Max (V): 12.6; Vs Min (V): 2.3; DatasheetVersion: Rev. C; PackageVersion: Rev G; PackageReference: LT-MS8-8; PackageDescription: 8-Lead Plastic Small Outline, Body 3.9 x 4.9 mm, Pitch 1.27 mm; Supplier 1: Digi-Key; Supplier Part Number 1: LT1801IMS8#TR-ND; Packing: Reel; Type: VFB; Mounting Technology: Surface Mount; ComponentLink1Description: Manufacturer URL; ComponentLink1URL: http://www.linear.com/; ComponentLink2Description: Datasheet; ComponentLink2URL: http://cds.linear.com/docs/en/datasheet/18012fc.pdf; ComponentLink3Description: Package Specification; ComponentLink3URL: http://cds.linear.com/docs/en/packaging/05081610_G_SO8.pdf
footprint LT-MS8-8_N (SOP, 8-Leads, Body 3x3mm, Pitch 0.65mm, IPC Medium Density)
footprint LT-MS8-8_L (SOP, 8-Leads, Body 3x3mm, Pitch 0.65mm, IPC High Density)
footprint LT-MS8-8_M (SOP, 8-Leads, Body 3x3mm, Pitch 0.65mm, IPC Low Density)
pins on every part: 4 V- (power), 8 V+ (power)
part A pins: 1 OUT A (out), 2 -IN A (in), 3 +IN A (in)
part B pins: 5 +IN B (in), 6 -IN B (in), 7 OUT B (out)

## LT1801IMS8#TRPBF
designator U?
Dual Channel, High Speed / Power, Precision Operational Amplifier, RRIO, 80 MHz Typical GBW, 25 V/us Typical SR, 2.3 to 12.6 V, 8-Pin SOP (MS8-8), Industrial, Pb-Free, Reel; Linear Technology Part Number: LT1801; Manufacturer: Linear Technology; PartNumber: LT1801IMS8#TRPBF; Channels (#): 2; GBW (MHz) Typical: 80; Is (mA) Typical: 1.6; SR (V/us) Typical: 25; Vos (mV) Guaranteed: 0.35; Vos (mV) Typical: 0.075; Vs Max (V): 12.6; Vs Min (V): 2.3; DatasheetVersion: Rev. C; PackageVersion: Rev G; PackageReference: LT-MS8-8; PackageDescription: 8-Lead Plastic Small Outline, Body 3.9 x 4.9 mm, Pitch 1.27 mm; Supplier 1: Digi-Key; Supplier Part Number 1: LT1801IMS8#TRPBF-ND; Supplier 2: Newark; Supplier Part Number 2: 57M6757; Packing: Reel; RoHS: Pb-Free; Type: VFB; Mounting Technology: Surface Mount; ComponentLink1Description: Manufacturer URL; ComponentLink1URL: http://www.linear.com/; ComponentLink2Description: Datasheet; ComponentLink2URL: http://cds.linear.com/docs/en/datasheet/18012fc.pdf; ComponentLink3Description: Package Specification; ComponentLink3URL: http://cds.linear.com/docs/en/packaging/05081610_G_SO8.pdf
footprint LT-MS8-8_N (SOP, 8-Leads, Body 3x3mm, Pitch 0.65mm, IPC Medium Density)
footprint LT-MS8-8_L (SOP, 8-Leads, Body 3x3mm, Pitch 0.65mm, IPC High Density)
footprint LT-MS8-8_M (SOP, 8-Leads, Body 3x3mm, Pitch 0.65mm, IPC Low Density)
pins on every part: 4 V- (power), 8 V+ (power)
part A pins: 1 OUT A (out), 2 -IN A (in), 3 +IN A (in)
part B pins: 5 +IN B (in), 6 -IN B (in), 7 OUT B (out)

## LT1801IS8
designator U?
Dual Channel, High Speed / Power, Precision Operational Amplifier, RRIO, 80 MHz Typical GBW, 25 V/us Typical SR, 2.3 to 12.6 V, 8-Pin SOIC (S8-8), Industrial; Linear Technology Part Number: LT1801; Manufacturer: Linear Technology; PartNumber: LT1801IS8; Channels (#): 2; GBW (MHz) Typical: 80; Is (mA) Typical: 1.6; SR (V/us) Typical: 25; Vos (mV) Guaranteed: 0.35; Vos (mV) Typical: 0.075; Vs Max (V): 12.6; Vs Min (V): 2.3; DatasheetVersion: Rev. C; PackageVersion: Rev G; PackageReference: LT-S8-8; PackageDescription: 8-Pin Plastic Small Outline, Body 4.9 x 3.9 mm, Pitch 1.27 mm; Supplier 1: Digi-Key; Supplier Part Number 1: LT1801IS8-ND; Type: VFB; Mounting Technology: Surface Mount; ComponentLink1Description: Manufacturer URL; ComponentLink1URL: http://www.linear.com/; ComponentLink2Description: Datasheet; ComponentLink2URL: http://cds.linear.com/docs/en/datasheet/18012fc.pdf; ComponentLink3Description: Package Specification; ComponentLink3URL: http://cds.linear.com/docs/en/packaging/05081610_G_SO8.pdf
footprint LT-S8-8_N (SOIC, 8-Leads, Body 4.9x3.9mm, Pitch 1.27mm, IPC Medium Density)
footprint LT-S8-8_L (SOIC, 8-Leads, Body 4.9x3.9mm, Pitch 1.27mm, IPC High Density)
footprint LT-S8-8_M (SOIC, 8-Leads, Body 4.9x3.9mm, Pitch 1.27mm, IPC Low Density)
pins on every part: 4 V- (power), 8 V+ (power)
part A pins: 1 OUT A (out), 2 -IN A (in), 3 +IN A (in)
part B pins: 5 +IN B (in), 6 -IN B (in), 7 OUT B (out)

## LT1801IS8#PBF
designator U?
Dual Channel, High Speed / Power, Precision Operational Amplifier, RRIO, 80 MHz Typical GBW, 25 V/us Typical SR, 2.3 to 12.6 V, 8-Pin SOIC (S8-8), Industrial, Pb-Free; Linear Technology Part Number: LT1801; Manufacturer: Linear Technology; PartNumber: LT1801IS8#PBF; Channels (#): 2; GBW (MHz) Typical: 80; Is (mA) Typical: 1.6; SR (V/us) Typical: 25; Vos (mV) Guaranteed: 0.35; Vos (mV) Typical: 0.075; Vs Max (V): 12.6; Vs Min (V): 2.3; DatasheetVersion: Rev. C; PackageVersion: Rev G; PackageReference: LT-S8-8; PackageDescription: 8-Pin Plastic Small Outline, Body 4.9 x 3.9 mm, Pitch 1.27 mm; Supplier 1: Digi-Key; Supplier Part Number 1: LT1801IS8#PBF-ND; Supplier 2: Farnell; Supplier Part Number 2: 2254810; Supplier 3: Newark; Supplier Part Number 3: 57M6759; RoHS: Pb-Free; Type: VFB; Mounting Technology: Surface Mount; ComponentLink1Description: Manufacturer URL; ComponentLink1URL: http://www.linear.com/; ComponentLink2Description: Datasheet; ComponentLink2URL: http://cds.linear.com/docs/en/datasheet/18012fc.pdf; ComponentLink3Description: Package Specification; ComponentLink3URL: http://cds.linear.com/docs/en/packaging/05081610_G_SO8.pdf
footprint LT-S8-8_N (SOIC, 8-Leads, Body 4.9x3.9mm, Pitch 1.27mm, IPC Medium Density)
footprint LT-S8-8_L (SOIC, 8-Leads, Body 4.9x3.9mm, Pitch 1.27mm, IPC High Density)
footprint LT-S8-8_M (SOIC, 8-Leads, Body 4.9x3.9mm, Pitch 1.27mm, IPC Low Density)
pins on every part: 4 V- (power), 8 V+ (power)
part A pins: 1 OUT A (out), 2 -IN A (in), 3 +IN A (in)
part B pins: 5 +IN B (in), 6 -IN B (in), 7 OUT B (out)

## LT1801IS8#TR
designator U?
Dual Channel, High Speed / Power, Precision Operational Amplifier, RRIO, 80 MHz Typical GBW, 25 V/us Typical SR, 2.3 to 12.6 V, 8-Pin SOIC (S8-8), Industrial, Reel; Linear Technology Part Number: LT1801; Manufacturer: Linear Technology; PartNumber: LT1801IS8#TR; Channels (#): 2; GBW (MHz) Typical: 80; Is (mA) Typical: 1.6; SR (V/us) Typical: 25; Vos (mV) Guaranteed: 0.35; Vos (mV) Typical: 0.075; Vs Max (V): 12.6; Vs Min (V): 2.3; DatasheetVersion: Rev. C; PackageVersion: Rev G; PackageReference: LT-S8-8; PackageDescription: 8-Pin Plastic Small Outline, Body 4.9 x 3.9 mm, Pitch 1.27 mm; Supplier 1: Digi-Key; Supplier Part Number 1: LT1801IS8TR-ND; Packing: Reel; Type: VFB; Mounting Technology: Surface Mount; ComponentLink1Description: Manufacturer URL; ComponentLink1URL: http://www.linear.com/; ComponentLink2Description: Datasheet; ComponentLink2URL: http://cds.linear.com/docs/en/datasheet/18012fc.pdf; ComponentLink3Description: Package Specification; ComponentLink3URL: http://cds.linear.com/docs/en/packaging/05081610_G_SO8.pdf
footprint LT-S8-8_N (SOIC, 8-Leads, Body 4.9x3.9mm, Pitch 1.27mm, IPC Medium Density)
footprint LT-S8-8_L (SOIC, 8-Leads, Body 4.9x3.9mm, Pitch 1.27mm, IPC High Density)
footprint LT-S8-8_M (SOIC, 8-Leads, Body 4.9x3.9mm, Pitch 1.27mm, IPC Low Density)
pins on every part: 4 V- (power), 8 V+ (power)
part A pins: 1 OUT A (out), 2 -IN A (in), 3 +IN A (in)
part B pins: 5 +IN B (in), 6 -IN B (in), 7 OUT B (out)

## LT1801IS8#TRPBF
designator U?
Dual Channel, High Speed / Power, Precision Operational Amplifier, RRIO, 80 MHz Typical GBW, 25 V/us Typical SR, 2.3 to 12.6 V, 8-Pin SOIC (S8-8), Industrial, Pb-Free, Reel; Linear Technology Part Number: LT1801; Manufacturer: Linear Technology; PartNumber: LT1801IS8#TRPBF; Channels (#): 2; GBW (MHz) Typical: 80; Is (mA) Typical: 1.6; SR (V/us) Typical: 25; Vos (mV) Guaranteed: 0.35; Vos (mV) Typical: 0.075; Vs Max (V): 12.6; Vs Min (V): 2.3; DatasheetVersion: Rev. C; PackageVersion: Rev G; PackageReference: LT-S8-8; PackageDescription: 8-Pin Plastic Small Outline, Body 4.9 x 3.9 mm, Pitch 1.27 mm; Supplier 1: Digi-Key; Supplier Part Number 1: LT1801IS8#TRPBF-ND; Supplier 2: Newark; Supplier Part Number 2: 57M6761; Packing: Reel; RoHS: Pb-Free; Type: VFB; Mounting Technology: Surface Mount; ComponentLink1Description: Manufacturer URL; ComponentLink1URL: http://www.linear.com/; ComponentLink2Description: Datasheet; ComponentLink2URL: http://cds.linear.com/docs/en/datasheet/18012fc.pdf; ComponentLink3Description: Package Specification; ComponentLink3URL: http://cds.linear.com/docs/en/packaging/05081610_G_SO8.pdf
footprint LT-S8-8_N (SOIC, 8-Leads, Body 4.9x3.9mm, Pitch 1.27mm, IPC Medium Density)
footprint LT-S8-8_L (SOIC, 8-Leads, Body 4.9x3.9mm, Pitch 1.27mm, IPC High Density)
footprint LT-S8-8_M (SOIC, 8-Leads, Body 4.9x3.9mm, Pitch 1.27mm, IPC Low Density)
pins on every part: 4 V- (power), 8 V+ (power)
part A pins: 1 OUT A (out), 2 -IN A (in), 3 +IN A (in)
part B pins: 5 +IN B (in), 6 -IN B (in), 7 OUT B (out)